# Altium footprint library OPA4227UA.PcbLib: 1 footprints
Each footprint in its own frame and in the unit in brackets; x right, y up, seen from the top. Pads: shape width x height; smd on the part's side, far side on the other; paste and mask are expansions set on the pad; w line width, h text height; cw(c..) or ccw(c..) is an arc to the next point about the centre after c.
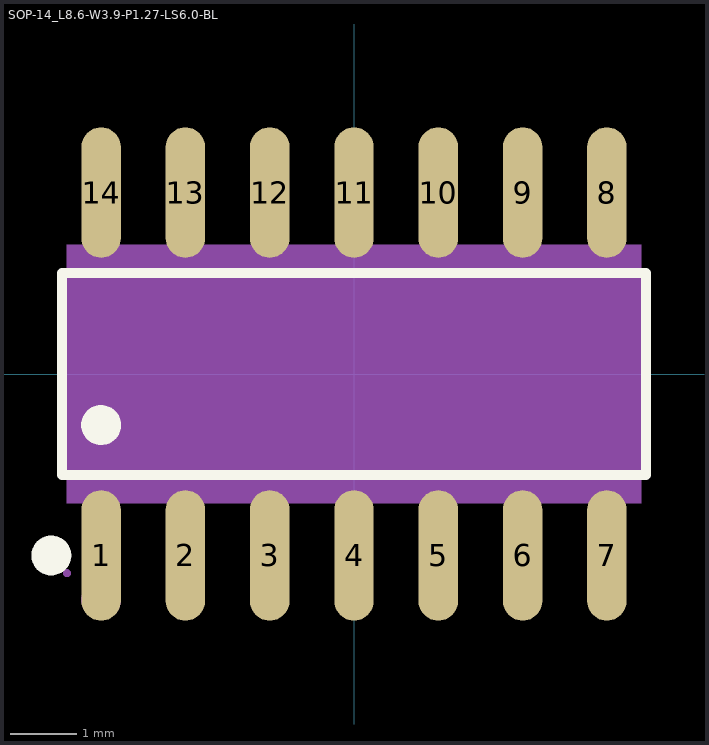
[diagram p0: the footprint, top view; thin cyan lines are the x and y axes]

## SOP-14_L8.6-W3.9-P1.27-LS6.0-BL [mm]
pads (14):
  oval 0.595x1.968 smd: 1(-3.81,-2.734) 2(-2.54,-2.734) 3(-1.27,-2.734) 4(0,-2.734) 5(1.27,-2.734) 6(2.54,-2.734) 7(3.81,-2.734) 8(3.81,2.734) 9(2.54,2.734) 10(1.27,2.734) 11(0,2.734) 12(-1.27,2.734) 13(-2.54,2.734) 14(-3.81,2.734)
Top Overlay:
  circle w0.3: c-4.56,-2.734 r0.15
  circle w0.3: c-3.81,-0.769 r0.15
  lines w0.152: -4.401,-1.521 4.401,-1.521 4.401,1.521 -4.401,1.521 -4.401,-1.521
Mechanical 4:
  region: -4.325,-1.95 -4.325,1.95 4.325,1.95 4.325,-1.95
Mechanical 5:
  pour cut-out: 3.598,2.31 3.598,1.94 4.022,1.94 4.022,2.31
  region: 3.598,3 3.598,2.3 4.022,2.3 4.022,3
  pour cut-out: 2.328,2.31 2.328,1.94 2.752,1.94 2.752,2.31
  region: 2.328,3 2.328,2.3 2.752,2.3 2.752,3
  pour cut-out: 1.058,2.31 1.058,1.94 1.482,1.94 1.482,2.31
  region: 1.058,3 1.058,2.3 1.482,2.3 1.482,3
  pour cut-out: -0.212,2.31 -0.212,1.94 0.212,1.94 0.212,2.31
  region: -0.212,3 -0.212,2.3 0.212,2.3 0.212,3
  pour cut-out: -1.482,2.31 -1.482,1.94 -1.058,1.94 -1.058,2.31
  region: -1.482,3 -1.482,2.3 -1.058,2.3 -1.058,3
  pour cut-out: -2.752,2.31 -2.752,1.94 -2.328,1.94 -2.328,2.31
  region: -2.752,3 -2.752,2.3 -2.328,2.3 -2.328,3
  pour cut-out: -4.022,2.31 -4.022,1.94 -3.598,1.94 -3.598,2.31
  region: -4.022,3 -4.022,2.3 -3.598,2.3 -3.598,3
  pour cut-out: 3.598,-2.31 3.598,-1.94 4.022,-1.94 4.022,-2.31
  region: 3.598,-3 3.598,-2.3 4.022,-2.3 4.022,-3
  pour cut-out: 2.328,-2.31 2.328,-1.94 2.752,-1.94 2.752,-2.31
  region: 2.328,-3 2.328,-2.3 2.752,-2.3 2.752,-3
  pour cut-out: 1.058,-2.31 1.058,-1.94 1.482,-1.94 1.482,-2.31
  region: 1.058,-3 1.058,-2.3 1.482,-2.3 1.482,-3
  pour cut-out: -0.212,-2.31 -0.212,-1.94 0.212,-1.94 0.212,-2.31
  region: -0.212,-3 -0.212,-2.3 0.212,-2.3 0.212,-3
  pour cut-out: -1.482,-2.31 -1.482,-1.94 -1.058,-1.94 -1.058,-2.31
  region: -1.482,-3 -1.482,-2.3 -1.058,-2.3 -1.058,-3
  pour cut-out: -2.752,-2.31 -2.752,-1.94 -2.328,-1.94 -2.328,-2.31
  region: -2.752,-3 -2.752,-2.3 -2.328,-2.3 -2.328,-3
  pour cut-out: -4.022,-2.31 -4.022,-1.94 -3.598,-1.94 -3.598,-2.31
  region: -4.022,-3 -4.022,-2.3 -3.598,-2.3 -3.598,-3
Mechanical 6:
  circle w0.06: c-4.325,-3 r0.03
Mechanical 15:
  circle w0.3: c-3.81,-3.4 r0.15